# Altium footprint library QUTMS_SpecialResistors.PcbLib: 1 footprints
Each footprint in its own frame and in the unit in brackets; x right, y up, seen from the top. Pads: shape width x height; smd on the part's side, far side on the other; paste and mask are expansions set on the pad; w line width, h text height; cw(c..) or ccw(c..) is an arc to the next point about the centre after c.
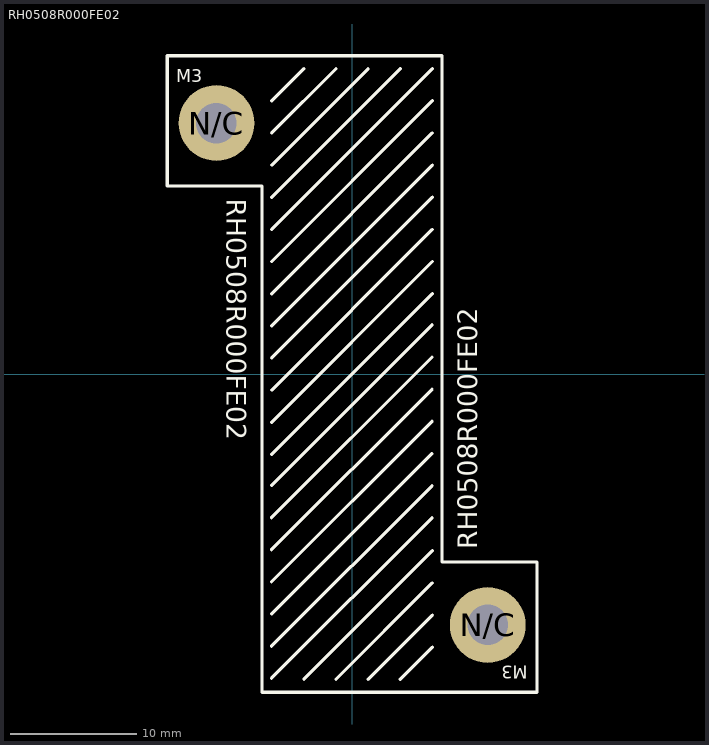
[diagram p0: the footprint, top view; thin cyan lines are the x and y axes]

## RH0508R000FE02 [mm] "8 Ohms ±1% 50W Wirewound Chassis Mount Resistor"
pads (2):
  round 6 hole 3.2: N/C(-10.72,19.835) N/C(10.72,-19.835)
Top Overlay:
  lines w0.254: -6.377,-24.056 6.323,-11.356 ; -6.377,-21.516 6.323,-8.816 ; -6.377,-18.976 6.323,-6.276 ; -6.377,-16.436 6.323,-3.736 ; -6.377,-13.896 6.323,-1.196 ; -6.377,-11.356 6.323,1.344 ; -6.377,-8.816 6.323,3.884 ; -6.35,-6.35 6.35,6.35 ; -6.35,-3.81 6.35,8.89 ; -6.35,-1.27 6.35,11.43 ; -6.35,1.27 6.35,13.97 ; -6.35,3.81 6.35,16.51 ; -6.35,6.35 6.35,19.05 ; -6.35,8.89 6.35,21.59 ; -6.35,11.43 6.35,24.13 ; -6.35,13.97 3.81,24.13 ; -6.35,16.51 1.27,24.13 ; -6.35,19.05 -1.27,24.13 ; -6.35,21.59 -3.81,24.13 ; -3.81,-24.13 6.35,-13.97 ; -1.27,-24.13 6.35,-16.51 ; 1.27,-24.13 6.35,-19.05 ; 3.81,-24.13 6.35,-21.59 ; -14.605,14.859 -14.605,25.146 7.112,25.146 7.112,-14.859 14.605,-14.859 14.605,-25.146 -7.112,-25.146 -7.112,14.859 -14.605,14.859
  text "M3" at 13.894,-23.063 h1.02
  text "M3" at -13.894,23.063 h1.02
  text "RH0508R000FE02" at -9.906,13.843 h1.52
  text "RH0508R000FE02" at 9.906,-13.843 h1.52
Bottom Overlay:
  lines w0.254: -6.377,-24.056 6.323,-11.356 ; -6.377,-21.516 6.323,-8.816 ; -6.377,-18.976 6.323,-6.276 ; -6.377,-16.436 6.323,-3.736 ; -6.377,-13.896 6.323,-1.196 ; -6.377,-11.356 6.323,1.344 ; -6.377,-8.816 6.323,3.884 ; -6.35,-6.35 6.35,6.35 ; -6.35,-3.81 6.35,8.89 ; -6.35,-1.27 6.35,11.43 ; -6.35,1.27 6.35,13.97 ; -6.35,3.81 6.35,16.51 ; -6.35,6.35 6.35,19.05 ; -6.35,8.89 6.35,21.59 ; -6.35,11.43 6.35,24.13 ; -6.35,13.97 3.81,24.13 ; -6.35,16.51 1.27,24.13 ; -6.35,19.05 -1.27,24.13 ; -6.35,21.59 -3.81,24.13 ; -3.81,-24.13 6.35,-13.97 ; -1.27,-24.13 6.35,-16.51 ; 1.27,-24.13 6.35,-19.05 ; 3.81,-24.13 6.35,-21.59 ; -14.605,14.859 -14.605,25.146 7.112,25.146 7.112,-14.859 14.605,-14.859 14.605,-25.146 -7.112,-25.146 -7.112,14.859 -14.605,14.859
  text "M3" at -12.141,23.063 h1.02
  text "M3" at 12.141,-23.063 h1.02
  text "RH0508R000FE02" at -9.906,-6.985 h1.52
  text "RH0508R000FE02" at 9.906,6.985 h1.52
3D body "RH-NH050.STEP": height 15.49, standoff 0, extent -14.48,-34.515 14.48,36.125